# EAGLE library part CML_DUALFP (library wheat)
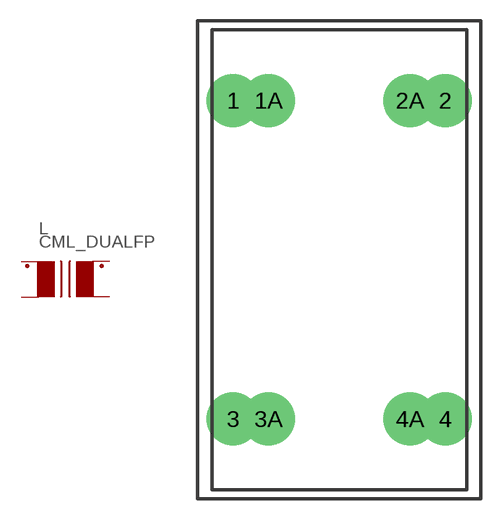
[diagram p138: symbol with the pads of CML_DUALFP; footprint CML_DUALFP]

Designator prefix L

## CML_DUALFP  [CML_DUALFP]
1  P1  pas
1A  P1A  pas
2  P2  pas
2A  P2A  pas
3  S1  pas
3A  S1A  pas
4  S2  pas
4A  S2A  pas

## Footprint CML_DUALFP (pad centres in mm)
drill 1.422 pad 3.81: 1 -7.62,11.43; 1A -5.08,11.43; 2 7.62,11.43; 2A 5.08,11.43; 3 -7.62,-11.43; 3A -5.08,-11.43; 4 7.62,-11.43; 4A 5.08,-11.43